# EAGLE library part WE-DS_214612043 (library wurth_elektronik_passive_rev16d)
WE-DS D-SUB-Filter Connectors Bent 90° Characteristics Standard type filtered with 1000 pF High attenuation of more than 40 dB @ 180 MHz Choice of earthing metal sheet or high speed earthing clip Rated voltage: 100 VDC Rated current @ 20 ºC: 5 A Withstand voltage: 250 VRMS Insulation resistance: min. 1000 MΩ Operating temperature: –55 ºC to +125 ºC Applications Filtering of interfaces External connection to -printer -sensor -display <http://katalog.we-online.de/media/thumbs2/eisos/thb_AbsDSubFilter_abgewinkelt_pf2.jpg> Details see: http://katalog.we-online.de/en/pbs/Filter_abgewinkelt Created on 2015-05-04 2015 (C) Wurth Elektronik
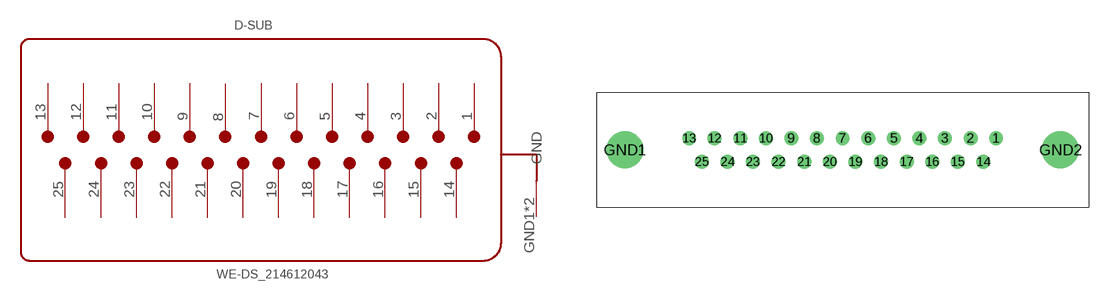
[diagram p199: symbol with the pads of WE-DS_2146120X3; footprint WE-DS_2146120X3]

Designator prefix D-SUB

## WE-DS_214612043  [WE-DS_2146120X3]
1  13
2  12
3  11
4  10
5  9
6  8
7  7
8  6
9  5
10  4
11  3
12  2
13  1
14  25
15  24
16  23
17  22
18  21
19  20
20  19
21  18
22  17
23  16
24  15
25  14
GND1  GND
GND2  GND

## Footprint WE-DS_2146120X3 (pad centres in mm)
drill 1: 1 16.56,1.27; 2 13.82,1.27; 3 11.05,1.27; 4 8.28,1.27; 5 5.54,1.27; 6 2.77,1.27; 7 0,1.27; 8 -2.77,1.27; 9 -5.54,1.27; 10 -8.28,1.27; 11 -11.05,1.27; 12 -13.82,1.27; 13 -16.56,1.27; 14 15.19,-1.27; 15 12.42,-1.27; 16 9.68,-1.27; 17 6.91,-1.27; 18 4.14,-1.27; 19 1.38,-1.27; 20 -1.38,-1.27; 21 -4.14,-1.27; 22 -6.91,-1.27; 23 -9.68,-1.27; 24 -12.42,-1.27; 25 -15.19,-1.27
drill 3: GND1 -23.5,0; GND2 23.5,0